# Altium footprint library Relay_THT.PcbLib: 78 footprints (part 1 of 5)
Each footprint in its own frame and in the unit in brackets; x right, y up, seen from the top. Pads: shape width x height; smd on the part's side, far side on the other; paste and mask are expansions set on the pad; w line width, h text height; cw(c..) or ccw(c..) is an arc to the next point about the centre after c.
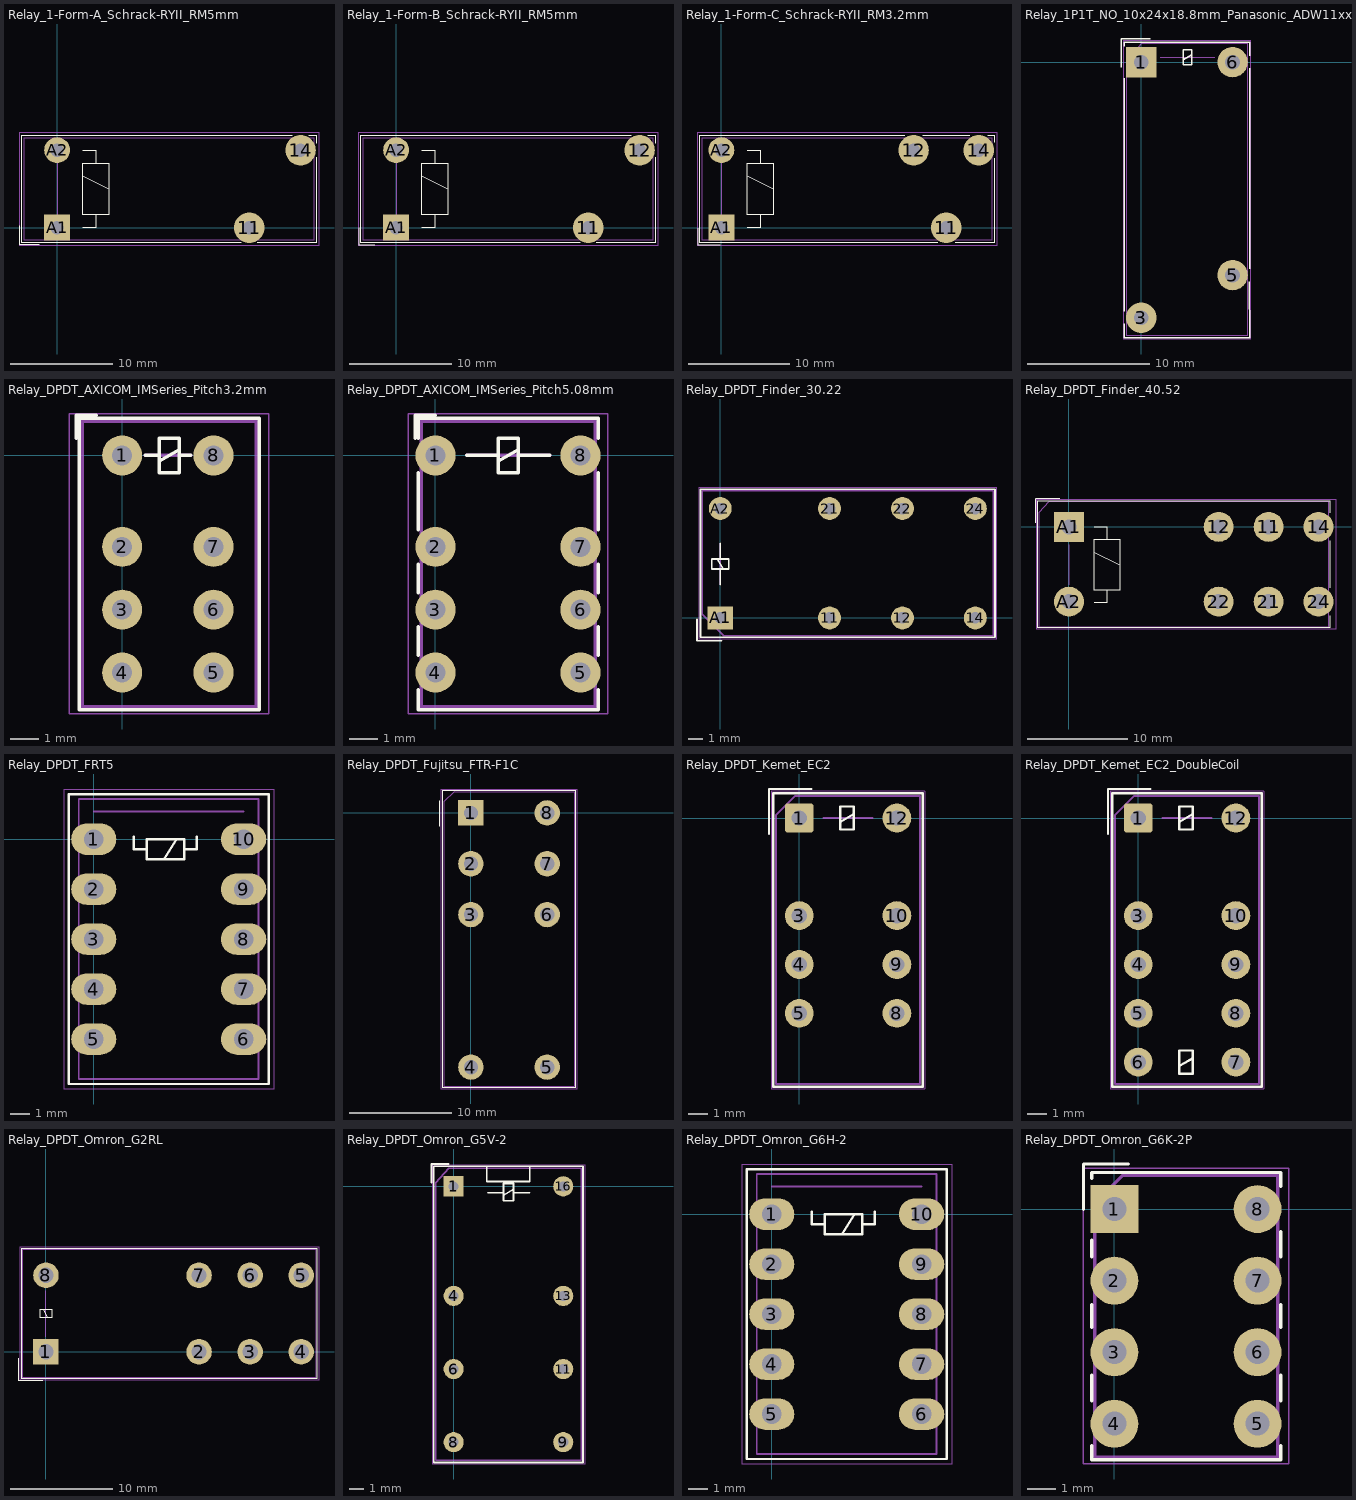
[diagram p0: the footprints below, top view; thin cyan lines are the x and y axes]

## Relay_1-Form-A_Schrack-RYII_RM5mm [mm]
pads (4):
  round 3 hole 1.3: 11(18.9,0) 14(23.94,7.62)
  rect 2.54x2.54 hole 1.3: A1(0,0)
  round 2.54 hole 1.3: A2(0,7.62)
F.SilkS:
  lines w0.12: -3.7,0.2 -3.7,-1.7 -1.75,-1.7 ; 2.54,0 3.81,0 3.81,1.27 ; 2.54,5.08 5.08,3.81 ; 2.54,7.62 3.81,7.62 3.81,6.35 ; 18.1,-1.5 -3.5,-1.5 -3.5,9.1 23.1,9.1 ; 19.7,-1.5 25.45,-1.5 ; 24.75,9.1 25.5,9.1 25.5,8.3 ; 25.5,-1.5 25.5,6.9 ; 3.81,6.35 2.54,6.35 2.54,1.27 5.08,1.27 5.08,6.35 3.81,6.35
F.CrtYd:
  lines w0.05: -3.75,-1.75 25.75,-1.75 25.75,9.35 -3.75,9.35 -3.75,-1.75
F.Fab:
  lines w0.1: 0,1.2 0,6.4 ; -3.25,-1.25 -3.25,8.85 25.25,8.85 25.25,-1.25 -3.25,-1.25
  text "'.Designator'" at 6.953,2.96 h1

## Relay_1-Form-B_Schrack-RYII_RM5mm [mm]
pads (4):
  round 3 hole 1.3: 11(18.9,0) 12(23.94,7.62)
  rect 2.54x2.54 hole 1.3: A1(0,0)
  round 2.54 hole 1.3: A2(0,7.62)
F.SilkS:
  lines w0.12: -3.7,0 -3.7,-1.7 -2.1,-1.7 ; 2.54,0 3.81,0 3.81,1.27 ; 2.54,5.08 5.08,3.81 ; 2.54,7.62 3.81,7.62 3.81,6.35 ; 18.1,-1.5 -3.5,-1.5 -3.5,9.1 23.1,9.1 ; 19.7,-1.5 25.45,-1.5 ; 24.75,9.1 25.5,9.1 25.5,8.3 ; 25.5,-1.5 25.5,6.9 ; 3.81,6.35 2.54,6.35 2.54,1.27 5.08,1.27 5.08,6.35 3.81,6.35
F.CrtYd:
  lines w0.05: -3.75,-1.75 -3.75,9.35 25.75,9.35 25.75,-1.75 -3.75,-1.75
F.Fab:
  lines w0.1: 0,1.2 0,6.4 ; -3.25,-1.25 25.25,-1.25 25.25,8.85 -3.25,8.85 -3.25,-1.25
  text "'.Designator'" at 6.953,2.96 h1

## Relay_1-Form-C_Schrack-RYII_RM3.2mm [mm]
pads (5):
  round 3 hole 1.3: 11(22.1,0) 12(18.9,7.62) 14(25.3,7.62)
  rect 2.54x2.54 hole 1.3: A1(0,0)
  round 2.54 hole 1.3: A2(0,7.62)
F.SilkS:
  lines w0.12: -2.35,-0.05 -2.35,-1.7 -0.1,-1.7 ; 2.54,0 3.81,0 3.81,1.27 ; 2.54,5.08 5.08,3.81 ; 2.54,7.62 3.81,7.62 3.81,6.35 ; 18.05,9.1 -2.15,9.1 -2.15,-1.5 21.25,-1.5 ; 19.8,9.1 24.4,9.1 ; 23,-1.5 26.85,-1.5 26.85,6.8 ; 26.2,9.1 26.85,9.1 26.85,8.4 ; 3.81,6.35 5.08,6.35 5.08,1.27 2.54,1.27 2.54,6.35 3.81,6.35
F.CrtYd:
  lines w0.05: -2.4,-1.75 -2.4,9.35 27.1,9.35 27.1,-1.75 -2.4,-1.75
F.Fab:
  lines w0.1: 0,1.2 0,6.4 ; -1.9,-1.25 -1.9,8.85 26.6,8.85 26.6,-1.25 -1.9,-1.25
  text "'.Designator'" at 8.303,2.96 h1

## Relay_1P1T_NO_10x24x18.8mm_Panasonic_ADW11xxxxW_THT [mm]
pads (4):
  rect 2.5x2.5 hole 1.2: 1(0,0)
  rrect100% 2.5x2.5 hole 1.2: 3(0,-21) 5(7.5,-17.5) 6(7.5,0)
F.SilkS:
  lines w0.12: -1.65,-0.44 -1.65,1.9 0.75,1.9 ; -1.4,-21.51 -1.4,-22.65 8.9,-22.65 8.89,-18.05 ; -1.4,-20.49 -1.4,-1.31 ; -1.4,1.31 -1.4,1.65 8.9,1.65 8.9,0.51 ; 3.45,0.2 4.15,0.6 ; 8.9,-16.99 8.9,-0.51 ; 3.45,-0.2 4.15,-0.2 4.15,1 3.45,1 3.45,-0.2
F.CrtYd:
  lines w0.05: -1.5,-22.75 9,-22.75 9,1.75 -1.5,1.75 -1.5,-22.75
F.Fab:
  lines w0.1: 1.55,0.4 6.05,0.4 ; -1.25,-22.5 -1.25,0 0,1.5 8.75,1.5 8.75,-22.5 -1.25,-22.5
  text "'.Designator'" at -0.297,-12.84 h1

## Relay_DPDT_AXICOM_IMSeries_Pitch3.2mm [mm]
pads (8):
  round 1.4 hole 0.7: 1(0,0) 2(0,-3.2) 3(0,-5.4) 4(0,-7.6) 5(3.2,-7.6) 6(3.2,-5.4) 7(3.2,-3.2) 8(3.2,0)
F.SilkS:
  lines w0.12: -1.6,0.6 -1.6,1.4 -0.9,1.4 ; 0.8,0 1.3,0 ; 1.3,-0.2 2,0.2 ; 2,0 2.4,0 ; -1.5,-8.9 -1.5,1.3 4.8,1.3 4.8,-8.9 -1.5,-8.9 ; 1.3,-0.6 2,-0.6 2,0.6 1.3,0.6 1.3,-0.6
F.CrtYd:
  lines w0.05: -1.85,-9.05 5.13,-9.05 5.13,1.45 -1.85,1.45 -1.85,-9.05
F.Fab:
  lines w0.12: 0.8,0 2.4,0 ; -1.4,-8.8 -1.4,1.2 4.7,1.2 4.7,-8.8 -1.4,-8.8
  text "'.Designator'" at 2.44,-8.047 h1

## Relay_DPDT_AXICOM_IMSeries_Pitch5.08mm [mm]
pads (8):
  round 1.4 hole 0.7: 1(0,0) 2(0,-3.2) 3(0,-5.4) 4(0,-7.6) 5(5.08,-7.6) 6(5.08,-5.4) 7(5.08,-3.2) 8(5.08,0)
F.SilkS:
  lines w0.12: -0.7,0.6 -0.7,1.4 0,1.4 ; -0.6,-8.2 -0.6,-8.9 5.7,-8.9 5.7,-8.2 ; -0.6,-7 -0.6,-6 ; -0.6,-4.8 -0.6,-3.8 ; -0.6,-2.6 -0.6,-0.6 ; -0.6,0.6 -0.6,1.3 5.7,1.3 5.7,0.6 ; 1.1,0 2.2,0 ; 2.2,-0.2 2.9,0.2 ; 2.9,0 4,0 ; 5.7,-7 5.7,-6 ; 5.7,-4.8 5.7,-3.8 ; 5.7,-2.6 5.7,-0.6 ; 2.2,-0.6 2.9,-0.6 2.9,0.6 2.2,0.6 2.2,-0.6
F.CrtYd:
  lines w0.05: -0.95,-9.05 -0.95,1.45 6.03,1.45 6.03,-9.05 -0.95,-9.05
F.Fab:
  lines w0.12: 1.1,0 4,0 ; -0.5,-8.8 -0.5,1.2 5.6,1.2 5.6,-8.8 -0.5,-8.8
  text "'.Designator'" at -1.547,-5.14 h1

## Relay_DPDT_Finder_30.22 [mm]
pads (8):
  round 1.6 hole 0.8: 11(7.62,0) 12(12.7,0) 14(17.78,0) 21(7.62,7.62) 22(12.7,7.62) 24(17.78,7.62) A2(0,7.62)
  rect 1.8x1.6 hole 0.8: A1(0,0)
F.SilkS:
  lines w0.12: -1.62,-0.1 -1.62,-1.6 0.1,-1.6 ; -0.2,4.1 0.2,3.4 ; 0,2.3 0,3.4 ; 0,4.1 0,5.2 ; -1.37,-1.35 19.15,-1.35 19.15,8.97 -1.37,8.97 -1.37,-1.35 ; -0.6,3.4 -0.6,4.1 0.6,4.1 0.6,3.4 -0.6,3.4
F.CrtYd:
  lines w0.05: -1.51,-1.49 -1.51,9.11 19.29,9.11 19.29,-1.49 -1.51,-1.49
F.Fab:
  lines w0.1: 0,2.3 0,5.2 ; -1.26,0.24 0.26,-1.24 19.04,-1.24 19.04,8.86 -1.26,8.86 -1.26,0.24
  text "'.Designator'" at 6.153,3.26 h1

## Relay_DPDT_Finder_40.52 [mm]
pads (8):
  round 3 hole 1.5: 11(20,0) 12(15,0) 14(25,0) 21(20,-7.5) 22(15,-7.5) 24(25,-7.5) A2(0,-7.5)
  rect 3x3 hole 1.5: A1(0,0)
F.SilkS:
  lines w0.12: -3.3,0.4 -3.3,2.8 -0.9,2.8 ; 2.54,-7.62 3.81,-7.62 3.81,-6.35 ; 2.54,-2.54 5.08,-3.81 ; 2.54,0 3.81,0 3.81,-1.27 ; 26.1,-8.9 26.1,-10.1 -3.1,-10.1 -3.1,2.6 26.1,2.6 26.1,1.4 ; 26.1,-6.1 26.1,-1.4 ; 3.81,-1.27 5.08,-1.27 5.08,-6.35 2.54,-6.35 2.54,-1.27 3.81,-1.27
F.CrtYd:
  lines w0.05: -3.25,-10.25 -3.25,2.75 26.75,2.75 26.75,-10.25 -3.25,-10.25
F.Fab:
  lines w0.12: 0,-5.8 0,-1.8 ; -3,-10 -3,1.4 -2,2.5 26,2.5 26,-10 -3,-10
  text "'.Designator'" at 8.018,-4.65 h1

## Relay_DPDT_FRT5 [mm]
pads (10):
  rrect100% 2.3x1.6 hole 1: 1(0,0) 2(0,-2.54) 3(0,-5.08) 4(0,-7.62) 5(0,-10.16) 6(7.62,-10.16) 7(7.62,-7.62) 8(7.62,-5.08) 9(7.62,-2.54) 10(7.62,0)
F.SilkS:
  lines w0.12: 2.032,0.127 2.032,-0.508 2.692,-0.508 ; 3.581,-1.016 4.216,0 ; 4.597,-0.508 5.232,-0.508 5.232,0.127 ; -1.27,-12.446 8.89,-12.446 8.89,2.286 -1.27,2.286 -1.27,-12.446 ; 2.692,-1.016 2.692,0 4.597,0 4.597,-1.016 2.692,-1.016
F.CrtYd:
  lines w0.05: -1.5,-12.7 9.15,-12.7 9.15,2.55 -1.5,2.55 -1.5,-12.7
F.Fab:
  lines w0.1: 0,1.397 7.62,1.397 ; -0.762,-12.192 -0.762,2.032 8.382,2.032 8.382,-12.192 -0.762,-12.192
  text "'.Designator'" at -0.237,-5.92 h1

## Relay_DPDT_Fujitsu_FTR-F1C [mm]
pads (8):
  rect 2.5x2.5 hole 1.4: 1(0,0)
  round 2.5 hole 1.4: 2(0,-5) 3(0,-10) 4(0,-25) 5(7.5,-25) 6(7.5,-10) 7(7.5,-5) 8(7.5,0)
F.SilkS:
  lines w0.12: -3.1,-1.3 -3.1,1.2 ; -2.78,-27.03 -2.78,2.23 10.28,2.23 10.28,-27.03 -2.78,-27.03
F.CrtYd:
  lines w0.05: -2.9,-27.15 10.4,-27.15 10.4,2.35 -2.9,2.35 -2.9,-27.15
F.Fab:
  lines w0.1: -2.65,-26.9 10.15,-26.9 10.15,2.1 -1.65,2.1 -2.65,1.1 -2.65,-26.9
  text "'.Designator'" at 5.685,-19.195 h1.5

## Relay_DPDT_Kemet_EC2 [mm]
pads (8):
  rrect17% 1.5x1.5 hole 0.8: 1(0,0)
  round 1.5 hole 0.8: 3(0,-5.08) 4(0,-7.62) 5(0,-10.16) 8(5.08,-10.16) 9(5.08,-7.62) 10(5.08,-5.08) 12(5.08,0)
F.SilkS:
  lines w0.12: -1.57,-0.83 -1.57,1.51 0.62,1.51 ; -1.35,1.27 -1.35,-13.99 6.43,-13.99 6.43,1.29 -1.35,1.29 ; 2.13,-0.2 2.83,0.2 ; 2.13,-0.6 2.13,0.6 2.83,0.6 2.83,-0.6 2.13,-0.6
F.CrtYd:
  lines w0.05: -1.46,-14.1 -1.46,1.4 6.54,1.4 6.54,-14.1 -1.46,-14.1
F.Fab:
  lines w0.1: 1.27,0 3.81,0 ; -1.21,-13.85 -1.21,0.15 -0.21,1.15 6.29,1.15 6.29,-13.85 -1.21,-13.85
  text "'.Designator'" at 3.38,-10.397 h1

## Relay_DPDT_Kemet_EC2_DoubleCoil [mm]
pads (10):
  rrect17% 1.5x1.5 hole 0.8: 1(0,0)
  round 1.5 hole 0.8: 3(0,-5.08) 4(0,-7.62) 5(0,-10.16) 6(0,-12.7) 7(5.08,-12.7) 8(5.08,-10.16) 9(5.08,-7.62) 10(5.08,-5.08) 12(5.08,0)
F.SilkS:
  lines w0.12: -1.57,-0.83 -1.57,1.51 0.62,1.51 ; -1.35,1.27 -1.35,-13.99 6.43,-13.99 6.43,1.29 -1.35,1.29 ; 2.13,-12.9 2.83,-12.5 ; 2.13,-0.2 2.83,0.2 ; 2.13,-13.3 2.83,-13.3 2.83,-12.1 2.13,-12.1 2.13,-13.3 ; 2.13,-0.6 2.13,0.6 2.83,0.6 2.83,-0.6 2.13,-0.6
F.CrtYd:
  lines w0.05: -1.46,-14.1 6.54,-14.1 6.54,1.4 -1.46,1.4 -1.46,-14.1
F.Fab:
  lines w0.1: 1.27,0 3.81,0 ; -1.21,-13.85 -1.21,0.15 -0.21,1.15 6.29,1.15 6.29,-13.85 -1.21,-13.85
  text "'.Designator'" at 3.38,-10.397 h1

## Relay_DPDT_Omron_G2RL [mm]
pads (8):
  rect 2.5x2.5 hole 1.5: 1(0,0)
  rrect100% 2.5x2.5 hole 1.5: 2(15,0) 3(20,0) 4(25,0) 5(25,7.5) 6(20,7.5) 7(15,7.5) 8(0,7.5)
F.SilkS:
  lines w0.12: -2.64,-0.65 -2.64,-2.84 -0.3,-2.84 ; -0.2,4.1 0.2,3.4 ; -2.4,-2.6 -2.4,10.1 26.6,10.1 26.6,-2.6 -2.4,-2.6 ; -0.6,3.4 0.6,3.4 0.6,4.1 -0.6,4.1 -0.6,3.4
F.CrtYd:
  lines w0.05: -2.55,-2.75 -2.55,10.25 26.75,10.25 26.75,-2.75 -2.55,-2.75
F.Fab:
  lines w0.1: -2.64,-0.65 -2.64,-2.84 -0.3,-2.84 ; 0,1.5 0,6 ; -2.3,-2.5 -2.3,10 26.5,10 26.5,-2.5 -2.3,-2.5
  text "'.Designator'" at 7.953,2.91 h1

## Relay_DPDT_Omron_G5V-2 [mm]
pads (8):
  rect 1.4x1.4 hole 0.7: 1(0,0)
  round 1.4 hole 0.7: 4(0,-7.62) 6(0,-12.7) 8(0,-17.78) 9(7.62,-17.78) 11(7.62,-12.7) 13(7.62,-7.62) 16(7.62,0)
F.SilkS:
  lines w0.12: -1.54,0.25 -1.54,1.55 -0.33,1.55 ; 2.3,0.34 5.3,0.34 5.3,1.4 ; 2.3,0.36 2.3,1.4 ; 2.37,-0.44 3.47,-0.44 ; 3.47,-0.61 4.17,-0.21 ; 4.17,-0.44 5.27,-0.44 ; -1.38,-19.19 9,-19.19 9,1.4 -1.38,1.4 -1.38,-19.19 ; 3.47,-1.01 4.17,-1.01 4.17,0.19 3.47,0.19 3.47,-1.01
F.CrtYd:
  lines w0.05: -1.48,-19.3 9.1,-19.3 9.1,1.5 -1.48,1.5 -1.48,-19.3
F.Fab:
  lines w0.1: -1.24,-19.04 -1.24,0.25 -0.33,1.26 8.86,1.26 8.86,-19.04 -1.24,-19.04
  text "'.Designator'" at -0.107,-10 h1

## Relay_DPDT_Omron_G6H-2 [mm]
pads (10):
  rrect100% 2.3x1.6 hole 1: 1(0,0) 2(0,-2.54) 3(0,-5.08) 4(0,-7.62) 5(0,-10.16) 6(7.62,-10.16) 7(7.62,-7.62) 8(7.62,-5.08) 9(7.62,-2.54) 10(7.62,0)
F.SilkS:
  lines w0.12: 2.032,0.127 2.032,-0.508 2.692,-0.508 ; 3.581,-1.016 4.216,0 ; 4.597,-0.508 5.232,-0.508 5.232,0.127 ; -1.27,-12.446 8.89,-12.446 8.89,2.286 -1.27,2.286 -1.27,-12.446 ; 2.692,-1.016 4.597,-1.016 4.597,0 2.692,0 2.692,-1.016
F.CrtYd:
  lines w0.05: -1.5,-12.7 9.15,-12.7 9.15,2.55 -1.5,2.55 -1.5,-12.7
F.Fab:
  lines w0.1: 0,1.397 7.62,1.397 ; -0.762,-12.192 -0.762,2.032 8.382,2.032 8.382,-12.192 -0.762,-12.192
  text "'.Designator'" at -0.237,-5.92 h1

## Relay_DPDT_Omron_G6K-2P [mm]
pads (8):
  rect 1.7x1.7 hole 0.85: 1(0,0)
  round 1.7 hole 0.85: 2(0,-2.54) 3(0,-5.08) 4(0,-7.62) 5(5.08,-7.62) 6(5.08,-5.08) 7(5.08,-2.54) 8(5.08,0)
F.SilkS:
  lines w0.12: -1.1,0 -1.1,1.6 0.5,1.6 ; -0.8,-8.4 -0.8,-8.9 5.9,-8.9 5.9,-8.4 ; -0.8,-6.8 -0.8,-5.9 ; -0.8,-4.2 -0.8,-3.4 ; -0.8,-1.7 -0.8,-1.1 ; -0.8,1.1 -0.8,1.3 5.9,1.3 5.9,0.8 ; 5.9,-6.8 5.9,-5.9 ; 5.9,-4.2 5.9,-3.4 ; 5.9,-1.7 5.9,-0.8
F.CrtYd:
  lines w0.05: -1.1,-9.05 6.18,-9.05 6.18,1.45 -1.1,1.45 -1.1,-9.05
F.Fab:
  lines w0.12: -0.7,-8.8 -0.7,0.2 0.3,1.2 5.8,1.2 5.8,-8.8 -0.7,-8.8
  text "'.Designator'" at -1.497,-4.64 h1